# Altium schematic symbol library Particle.SchLib: 2 symbols
Pins are listed as number, name and electrical type; pins without a type are passive.

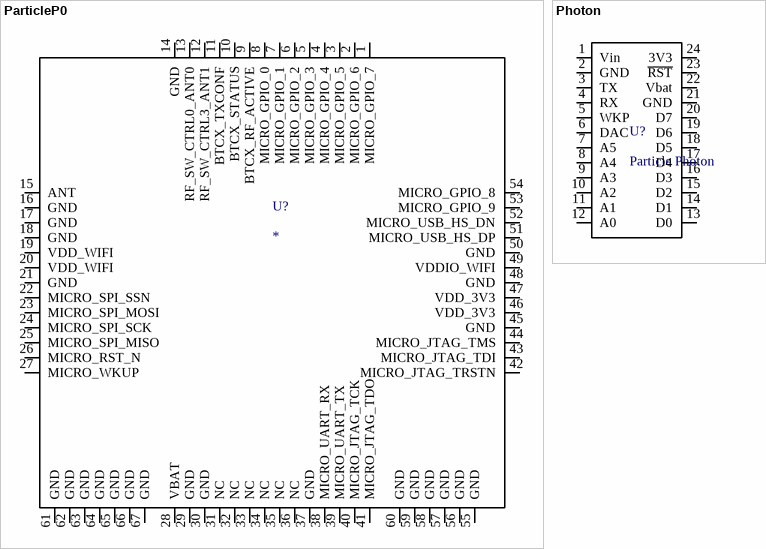
[diagram p0: symbols ParticleP0 to Photon]

## ParticleP0
designator U?
footprint Photon P0
pins: 1 MICRO_GPIO_7, 2 MICRO_GPIO_6, 3 MICRO_GPIO_5, 4 MICRO_GPIO_4, 5 MICRO_GPIO_3, 6 MICRO_GPIO_2, 7 MICRO_GPIO_1, 8 MICRO_GPIO_0, 9 BTCX_RF_ACTIVE, 10 BTCX_STATUS, 11 BTCX_TXCONF, 12 RF_SW_CTRL3_ANT1, 13 RF_SW_CTRL0_ANT0, 14 GND, 15 ANT, 16 GND, 17 GND, 18 GND, 19 VDD_WIFI, 20 VDD_WIFI, 21 GND, 22 MICRO_SPI_SSN, 23 MICRO_SPI_MOSI, 24 MICRO_SPI_SCK, 25 MICRO_SPI_MISO, 26 MICRO_RST_N, 27 MICRO_WKUP, 28 VBAT, 29 GND, 30 GND, 31 NC, 32 NC, 33 NC, 34 NC, 35 NC, 36 NC, 37 GND, 38 MICRO_UART_RX, 39 MICRO_UART_TX, 40 MICRO_JTAG_TCK, 41 MICRO_JTAG_TDO, 42 MICRO_JTAG_TRSTN, 43 MICRO_JTAG_TDI, 44 MICRO_JTAG_TMS, 45 GND, 46 VDD_3V3, 47 VDD_3V3, 48 GND, 49 VDDIO_WIFI, 50 GND, 51 MICRO_USB_HS_DP, 52 MICRO_USB_HS_DN, 53 MICRO_GPIO_9, 54 MICRO_GPIO_8, 55 GND, 56 GND, 57 GND, 58 GND, 59 GND, 60 GND, 61 GND, 62 GND, 63 GND, 64 GND, 65 GND, 66 GND, 67 GND

## Photon
designator U?, comment Particle Photon
Manufacturer: Particle; Part Number: Photon; Price 1: 20; Price 100: 20; Price 1000: 20
footprint Photon
pins: 1 Vin, 2 GND, 3 TX, 4 RX, 5 WKP, 6 DAC, 7 A5, 8 A4, 9 A3, 10 A2, 11 A1, 12 A0, 13 D0, 14 D1, 15 D2, 16 D3, 17 D4, 18 D5, 19 D6, 20 D7, 21 GND, 22 Vbat, 23 ~{RST}, 24 3V3